# EAGLE library part TPS7A4901DRBT (library TPS7A4901DRBT)
LDO Voltage Regulators Vin 3V to 36V 150mA UltraLow Noise Source: Datasheet <https://www.arrow.com/en/products/tps7a4901drbt/texas-instruments?region=nac>
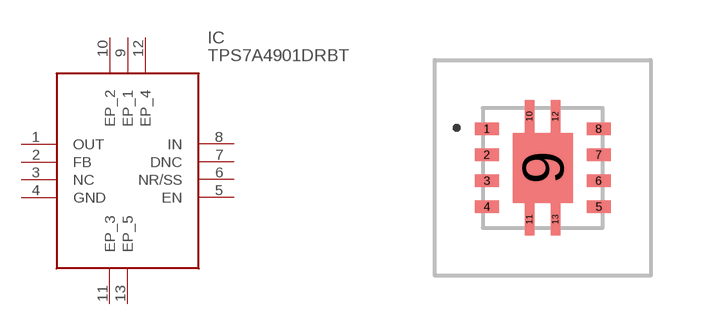
[diagram p0: symbol with the pads of TPS7A4901DRBT; footprint TPS7A4901DRBT]

Designator prefix IC

## TPS7A4901DRBT (Description: LDO Voltage Regulators Vin 3V to 36V 150mA UltraLow Noise; Height: 1mm; Manufacturer_Name: Texas Instruments; Manufacturer_Part_Number: TPS7A4901DRBT; Mouser_Part_Number: 595-TPS7A4901DRBT; Mouser_Price-Stock: https://www.mouser.co.uk/ProductDetail/Texas-Instruments/TPS7A4901DRBT?qs=pV2tVPdcZ6zWH9W1Sn7%252Btg%3D%3D)  [TPS7A4901DRBT]
1  OUT
2  FB
3  NC  nc
4  GND
5  EN
6  NR/SS
7  DNC
8  IN
9  EP_1
10  EP_2
11  EP_3
12  EP_4
13  EP_5

## Footprint TPS7A4901DRBT (pad centres in mm)
TPS7A4901DRBT-4
smd 0.6 x 0.31: 1 -1.4,0.975; 2 -1.4,0.325; 3 -1.4,-0.325; 4 -1.4,-0.975; 5 1.4,-0.975; 6 1.4,-0.325; 7 1.4,0.325; 8 1.4,0.975
smd 1.5 x 1.75: 9 0,0
smd 0.23 x 0.825: 10 -0.325,1.287; 11 -0.325,-1.287; 12 0.325,1.287; 13 0.325,-1.287